# Altium schematic symbol library RC0402FR-078K06L.SchLib: 1 symbol
Pins are listed as number, name and electrical type; pins without a type are passive.

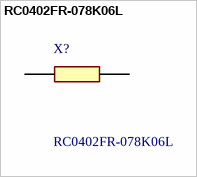
[diagram p0: symbol RC0402FR-078K06L]

## RC0402FR-078K06L
designator X?
RESISTOR, 0402 8.06K Ohms +/-1% 1/16 W; Manufacturer_Name: Yageo Group; Geometry.Height: 0.4mm; Mouser Part Number: *; Mouser Price/Stock: *; Manufacturer_Part_Number: RC0402FR-078K06L; Datasheet Link: http://www.yageo.com/documents/recent/PYu-RC0402_51_RoHS_L_6_r.pdf
footprint RESC1005X40N
pins: 1, 2